# EAGLE library part S29GLXXXM (library IC)
AMD Spansion S29GLxxxM 256, 128, 64, 32 Megabit MirrorBit(TM) Flash
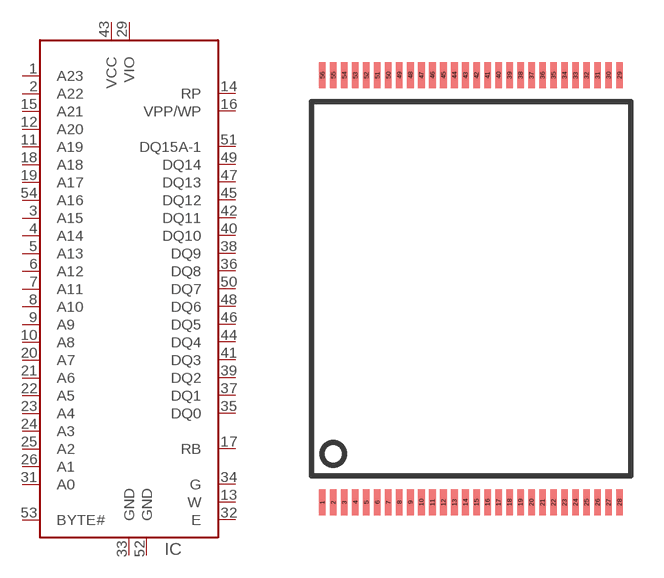
[diagram p83: symbol with the pads of TSOP56-I; footprint TSOP56-I]

Designator prefix IC

## S29GLXXXM-T  [TSOP56-I]
1  A23
2  A22
3  A15
4  A14
5  A13
6  A12
7  A11
8  A10
9  A9
10  A8
11  A19
12  A20
13  W
14  RP
15  A21
16  VPP/WP
17  RB
18  A18
19  A17
20  A7
21  A6
22  A5
23  A4
24  A3
25  A2
26  A1
29  VIO  pwr
31  A0
32  E
33  GND  pwr
34  G
35  DQ0
36  DQ8
37  DQ1
38  DQ9
39  DQ2
40  DQ10
41  DQ3
42  DQ11
43  VCC  pwr
44  DQ4
45  DQ12
46  DQ5
47  DQ13
48  DQ6
49  DQ14
50  DQ7
51  DQ15A-1
52  GND  pwr
53  BYTE#
54  A16

## Footprint TSOP56-I (pad centres in mm)
smd 0.3 x 1.2: 1 -6.75,-9.7; 2 -6.25,-9.7; 3 -5.75,-9.7; 4 -5.25,-9.7; 5 -4.75,-9.7; 6 -4.25,-9.7; 7 -3.75,-9.7; 8 -3.25,-9.7; 9 -2.75,-9.7; 10 -2.25,-9.7; 11 -1.75,-9.7; 12 -1.25,-9.7; 13 -0.75,-9.7; 14 -0.25,-9.7; 15 0.25,-9.7; 16 0.75,-9.7; 17 1.25,-9.7; 18 1.75,-9.7; 19 2.25,-9.7; 20 2.75,-9.7; 21 3.25,-9.7; 22 3.75,-9.7; 23 4.25,-9.7; 24 4.75,-9.7; 25 5.25,-9.7; 26 5.75,-9.7; 27 6.25,-9.7; 28 6.75,-9.7; 29 6.75,9.7; 30 6.25,9.7; 31 5.75,9.7; 32 5.25,9.7; 33 4.75,9.7; 34 4.25,9.7; 35 3.75,9.7; 36 3.25,9.7; 37 2.75,9.7; 38 2.25,9.7; 39 1.75,9.7; 40 1.25,9.7; 41 0.75,9.7; 42 0.25,9.7; 43 -0.25,9.7; 44 -0.75,9.7; 45 -1.25,9.7; 46 -1.75,9.7; 47 -2.25,9.7; 48 -2.75,9.7; 49 -3.25,9.7; 50 -3.75,9.7; 51 -4.25,9.7; 52 -4.75,9.7; 53 -5.25,9.7; 54 -5.75,9.7; 55 -6.25,9.7; 56 -6.75,9.7